# Altium footprint library DRA.PcbLib: 72 footprints (part 5 of 6)
Each footprint in its own frame and in the unit in brackets; x right, y up, seen from the top. Pads: shape width x height; smd on the part's side, far side on the other; paste and mask are expansions set on the pad; w line width, h text height; cw(c..) or ccw(c..) is an arc to the next point about the centre after c.
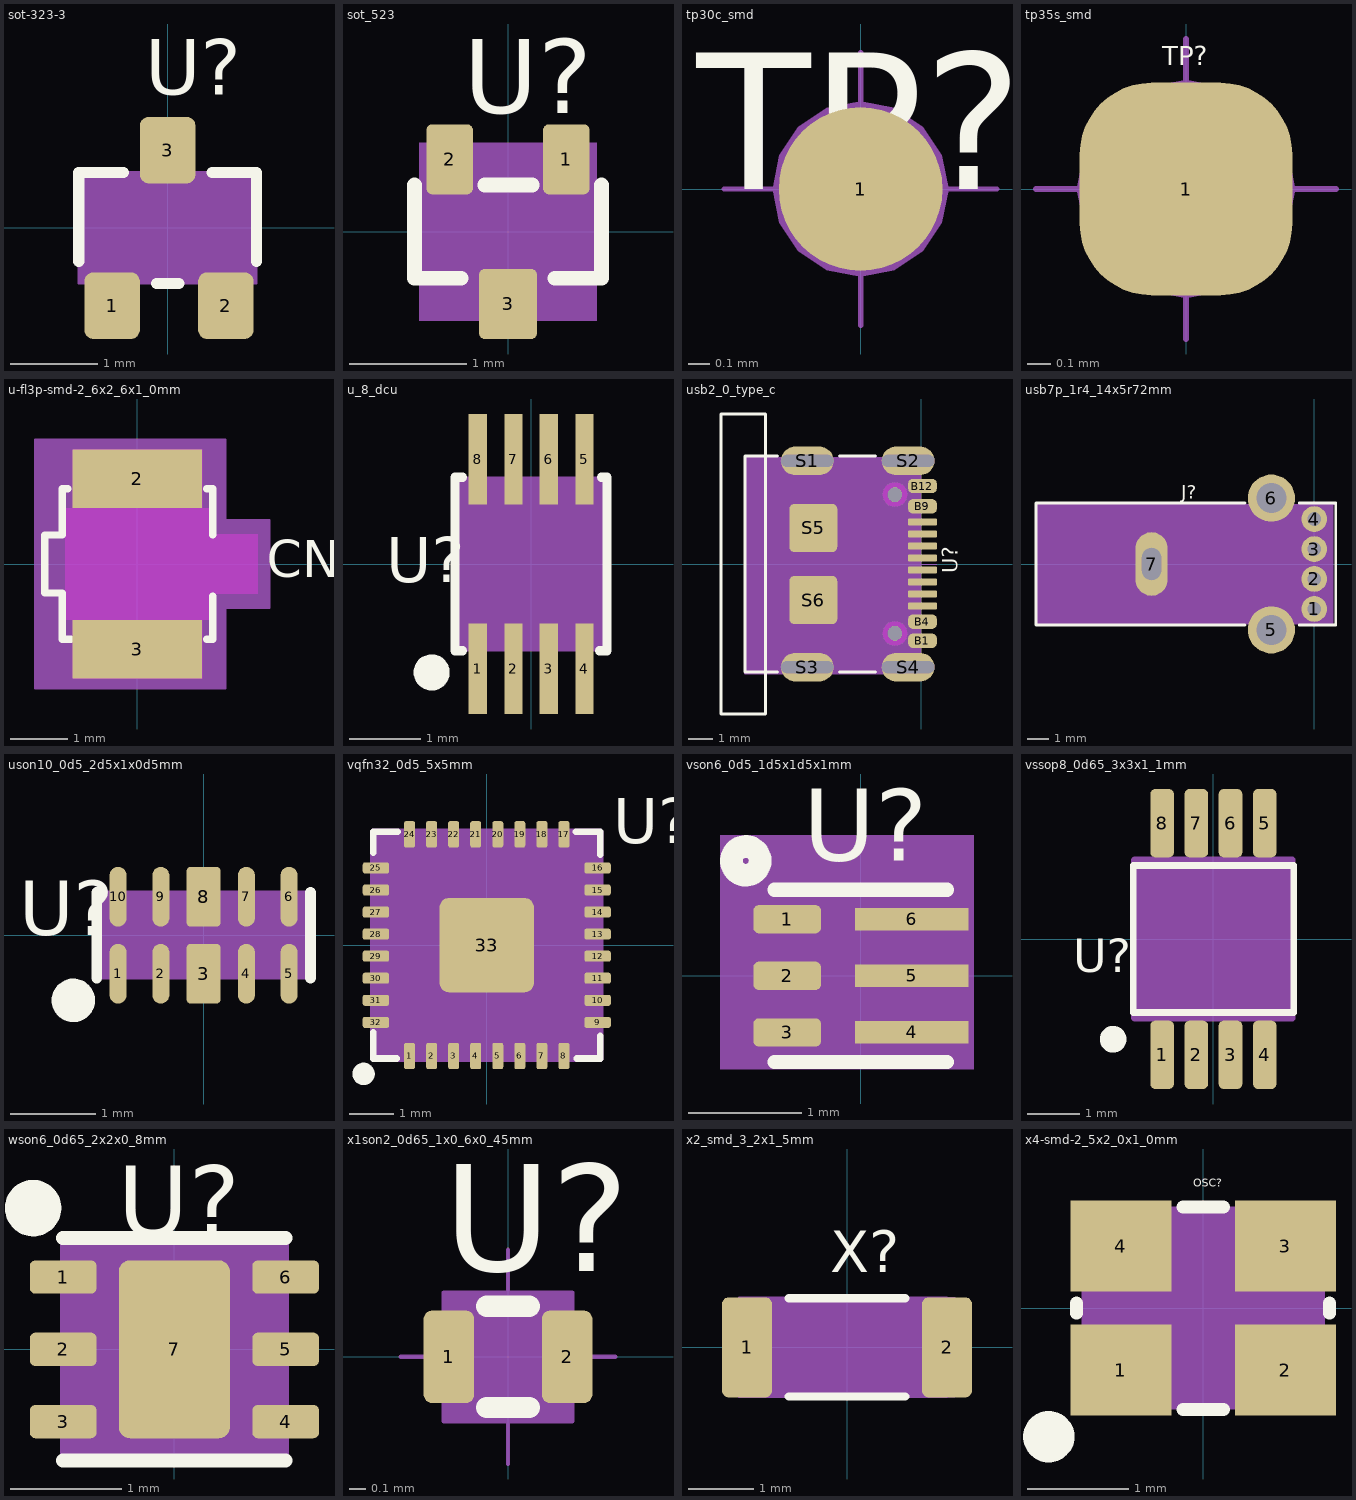
[diagram p4: the footprints below, top view; thin cyan lines are the x and y axes]

## sot-323-3 [mil]
pads (3):
  rrect32% 25x30 smd: 1(-25,-35) 2(26.18,-35) 3(0,35)
Top Overlay:
  lines w5: -40,-15 -40,25 -20,25 ; -5,-25 5,-25 ; 20,25 40,25 40,-15
  text "U?" at -10,60 h25
PLACE_BOUND_TOP:
  region: -40,-25 40,-25 40,25 -40,25
DRAWING_ORIGIN:
  lines w1: -25,0 25,0 ; 0,-25 0,25
PIN_NUMBER:
  text "3" at -10,35 h25
  text "2" at 16.18,-35 h25
  text "1" at -35,-35 h25
ASSEMBLY_TOP:
  lines w1: -40,-25 -40,25 40,25 40,-25 -40,-25
  text "U?" at -10,0 h25
  text "U?" at -5,-15 h25
3D body: height 150, standoff 0, extent -40,-25 40,25

## sot_523 [mm]
pads (3):
  rrect25% 0.4x0.6 smd: 1(0.5,0.62) 2(-0.5,0.62)
  rrect20% 0.5x0.6 smd: 3(0,-0.62)
Top Overlay:
  lines w0.127: -0.8,0.4 -0.8,-0.4 -0.4,-0.4 ; -0.2,0.4 0.208,0.4 ; 0.4,-0.4 0.8,-0.4 0.8,0.4
  text "U?" at -0.381,1.016 h0.64
PLACE_BOUND_TOP:
  region: -0.762,-0.762 0.762,-0.762 0.762,0.762 -0.762,0.762
DRAWING_ORIGIN:
  lines w0.025: -0.635,0 0.635,0 ; 0,-0.635 0,0.635
PIN_NUMBER:
  text "3" at -0.254,-0.62 h0.64
  text "2" at -0.754,0.62 h0.64
  text "1" at 0.246,0.62 h0.64
ASSEMBLY_TOP:
  lines w0.025: -0.762,-0.381 -0.762,0.381 0.762,0.381 0.762,-0.381 -0.762,-0.381
  text "U?" at -0.381,-0.254 h0.64
  text "U?" at 0.127,-0.127 h0.64
3D body: height 3.81, standoff 0, extent -0.762,-0.762 0.762,0.762

## tp30c_smd [mil]
pads (1):
  round 30 smd: 1(0,0)
Top Overlay:
  text "TP?" at -30,0 h25
PLACE_BOUND_TOP:
  region: 16.12,0 14.89,6.17 11.4,11.4 6.17,14.89 0,16.12 -6.17,14.89 -7.92,13.72 -11.4,11.4 -14.89,6.17 -16.12,0 -14.89,-6.17 -11.4,-11.4 -7.92,-13.72 -6.17,-14.89 0,-16.12 6.17,-14.89 11.4,-11.4 14.89,-6.17
DRAWING_ORIGIN:
  lines w1: -25,0 25,0 ; 0,-25 0,25
PIN_NUMBER:
  text "1" at -8,0 h20
ASSEMBLY_TOP:
  text "TP?" at 0,0 h25
  text "TP?" at -15,-40 h25
3D body: height 150, standoff 0, extent -16.12,-16.12 16.12,16.12

## tp35s_smd [mil]
pads (1):
  rrect67% 35.42x35.42 smd: 1(0,0)
Top Overlay:
  text "TP?" at -3.94,20.6 h3.15
PLACE_BOUND_TOP:
  region: 18.14,0 16.76,6.94 12.83,12.83 6.94,16.76 0,18.14 -6.94,16.76 -8.91,15.44 -12.83,12.83 -16.76,6.94 -18.14,0 -16.76,-6.94 -12.83,-12.83 -8.91,-15.44 -6.94,-16.76 0,-18.14 6.94,-16.76 12.83,-12.83 16.76,-6.94
DRAWING_ORIGIN:
  lines w1: -25,0 25,0 ; 0,-25 0,25
PIN_NUMBER:
  text "1" at -2.52,0 h3.15
ASSEMBLY_TOP:
  dashed: 18.22,0 16.83,6.97 12.88,12.88 6.97,16.83 0,18.22 -6.97,16.83 -8.95,15.51 -12.88,12.88 -16.83,6.97 -18.22,0 -16.83,-6.97 -12.88,-12.88 -8.95,-15.51 -6.97,-16.83 0,-18.22 6.97,-16.83 12.88,-12.88 16.83,-6.97
  text "TP?" at -3.54,-1.44 h3.15
3D body: height 150, standoff 0, extent -18.14,-18.14 18.14,18.14

## u-fl3p-smd-2_6x2_6x1_0mm [mil]
pads (3):
  rect 0x0 smd: 1(62.01,0)
  rect 88x40 smd: 2(0,58.07) 3(0,-58.07)
TOP keep-out:
  region: -44.09,77.95 -44.09,38.19 44.09,38.19 44.09,77.95
  region: -44.09,-38.19 -44.09,-77.95 44.09,-77.95 44.09,-38.19
  region: 42.13,20.08 42.13,-20.08 81.89,-20.08 81.89,20.08
  region: -49,38 -49,-38 50,-38 50,38
Top Overlay:
  lines w5: -47.24,51.18 -51.18,51.18 -51.18,19.69 -62.99,19.69 -62.99,-19.69 -51.18,-19.69 -51.18,-51.18 -45.28,-51.18 ; 47.24,-51.18 51.18,-51.18 51.18,-22.05 ; 47.24,51.18 51.18,51.18 51.18,19.69
  text "CN?" at 88,-9 h25
PLACE_BOUND_TOP:
  region: -70,85 60,85 60,30 90,30 90,-30 60,-30 60,-85 -70,-85
DRAWING_ORIGIN:
  lines w1: -25,0 25,0 ; 0,-25 0,25
PIN_NUMBER:
  text "1" at 52.01,0 h25
  text "3" at -10,-58.07 h25
  text "2" at -10,58.07 h25
ASSEMBLY_TOP:
  lines w1: -70,-85 -70,85 60,85 60,30 90,30 90,-30 60,-30 60,-85 -70,-85
  text "v?" at -19,10 h25
  text "CN?" at -27,-28 h25
BODY_CENTER:
  lines w1: -59.06,0 59.06,0 ; 0,-59.06 0,59.06
3D body: height 150, standoff 0, extent -70,-85 90,85

## u_8_dcu [mil]
pads (8):
  rect 10x50 smd: 1(-29.5,-58) 2(-9.8,-58) 3(9.8,-58) 4(29.5,-58) 5(29.5,58) 6(9.8,58) 7(-9.8,58) 8(-29.5,58)
Top Overlay:
  circle w10: c-55,-60 r5
  lines w5: -38,-48 -42,-48 -42,48 -38,48 ; 38,-48 42,-48 42,48 39,48
  text "U?" at -80,-10 h25
PLACE_BOUND_TOP:
  region: -42,-48 42,-48 42,48 -42,48
DRAWING_ORIGIN:
  lines w1: -25,0 25,0 ; 0,-25 0,25
PIN_NUMBER:
  text "4" at 15.14,-58 h35.9
  text "1" at -43.86,-58 h35.9
  text "8" at -43.86,58 h35.9
  text "3" at -4.56,-58 h35.9
  text "7" at -24.16,58 h35.9
  text "2" at -24.16,-58 h35.9
  text "5" at 15.14,58 h35.9
  text "6" at -4.56,58 h35.9
ASSEMBLY_TOP:
  circle w10: c-25,-35 r5
  lines w1: -42,-48 -42,48 42,48 42,-48 -42,-48
  text "U?" at 35,-5 h25
  text "U?" at -15,-10 h25
3D body: height 150, standoff 0, extent -42,-48 42,48

## usb2_0_type_c [mm]
pads (20):
  rrect33% 1.2x0.3 smd: A5(0.05,1.25) A6(0.05,0.25) A7(0.05,-0.25) A8(0.05,-1.25) B5(0.05,-1.75) B6(0.05,-0.75) B7(0.05,0.75) B8(0.05,1.75)
  rrect67% 1.2x0.6 smd: B1(0.05,-3.2) B4(0.05,-2.4) B9(0.05,2.4) B12(0.05,3.25)
  oval 2.2x1.2 hole 0.5 slot 2.2 at 0 deg: S1(-4.75,4.3) S2(-0.55,4.3) S3(-4.75,-4.3) S4(-0.55,-4.3)
  rrect20% 2x2 smd: S5(-4.5,1.5) S6(-4.5,-1.5)
  round 0.6 hole 0.6: ""(-1.1,-2.89) ""(-1.1,2.89)
Top Overlay:
  lines w0.127: -6,-4.5 -7.35,-4.5 -7.35,4.5 -6,4.5 ; -3.4,-4.5 -1.9,-4.5 ; -3.4,4.5 -1.9,4.5 ; -8.35,-6.25 -6.5,-6.25 -6.5,6.25 -8.35,6.25 -8.35,-6.25
  text "U?" at 1.524,-0.381 h0.64
PLACE_BOUND_TOP:
  region: -7.366,-4.572 0,-4.572 0,4.445 -7.366,4.445
Multi-Layer keep-out:
  region: -0.59,-2.89 -0.629,-2.695 -0.739,-2.529 -0.905,-2.419 -1.1,-2.38 -1.295,-2.419 -1.351,-2.456 -1.461,-2.529 -1.571,-2.695 -1.61,-2.89 -1.571,-3.085 -1.461,-3.251 -1.351,-3.324 -1.295,-3.361 -1.1,-3.4 -0.905,-3.361 -0.739,-3.251 -0.629,-3.085
  region: -0.59,2.89 -0.629,3.085 -0.739,3.251 -0.905,3.361 -1.1,3.4 -1.295,3.361 -1.351,3.324 -1.461,3.251 -1.571,3.085 -1.61,2.89 -1.571,2.695 -1.461,2.529 -1.351,2.456 -1.295,2.419 -1.1,2.38 -0.905,2.419 -0.739,2.529 -0.629,2.695
DRAWING_ORIGIN:
  lines w0.025: -0.635,0 0.635,0 ; 0,-0.635 0,0.635
PIN_NUMBER:
  text "S6" at -5.516,-1.5 h0.64
  text "B4" at -0.966,-2.4 h0.64
  text "B12" at -1.474,3.25 h0.64
  text "A5" at -0.966,1.25 h0.64
  text "S5" at -5.516,1.5 h0.64
  text "B7" at -0.966,0.75 h0.64
  text "B1" at -0.966,-3.2 h0.64
  text "S3" at -5.258,-4.3 h0.64
  text "S4" at -1.058,-4.3 h0.64
  text "A6" at -0.966,0.25 h0.64
  text "A8" at -0.966,-1.25 h0.64
  text "S1" at -5.258,4.3 h0.64
  text "B6" at -0.966,-0.75 h0.64
  text "B9" at -0.966,2.4 h0.64
  text "B5" at -0.966,-1.75 h0.64
  text "S2" at -1.058,4.3 h0.64
  text "A7" at -0.966,-0.25 h0.64
  text "B8" at -0.966,1.75 h0.64
ASSEMBLY_TOP:
  lines w0.025: -7.366,-4.572 -7.366,4.445 0,4.445 0,-4.572 -7.366,-4.572
  text "U?" at -2.54,0.254 h0.64
  text "U?" at -2.54,-1.016 h0.64
3D body: height 3.81, standoff 0, extent -7.366,-4.572 0,4.445

## usb7p_1r4_14x5r72mm [mm]
pads (7):
  round 1.2 hole 0.65: 1(0,-2.1) 2(0,-0.7) 3(0,0.7) 4(0,2.1)
  round 2.2 hole 1.4: 5(-2,-3.08) 6(-2,3.08)
  oval 1.5x2.972 hole 0.9 slot 1.5 at 90 deg: 7(-7.6,0)
Top Overlay:
  lines w0.127: -3.231,-2.85 -13,-2.85 -13,2.85 -3.231,2.85 ; -0.706,-2.85 1,-2.85 1,2.85 -0.706,2.85
  text "J?" at -6.223,3.048 h0.64
PLACE_BOUND_TOP:
  region: -12.954,2.794 -12.954,-2.794 0.889,-2.794 0.889,2.794
DRAWING_ORIGIN:
  lines w0.025: -0.635,0 0.635,0 ; 0,-0.635 0,0.635
PIN_NUMBER:
  text "4" at -0.254,2.1 h0.64
  text "7" at -7.854,0 h0.64
  text "3" at -0.254,0.7 h0.64
  text "2" at -0.254,-0.7 h0.64
  text "6" at -2.254,3.08 h0.64
  text "5" at -2.254,-3.08 h0.64
  text "1" at -0.254,-2.1 h0.64
ASSEMBLY_TOP:
  lines w0.025: -12.954,-2.794 -12.954,2.794 1.016,2.794 1.016,-2.794 -12.954,-2.794
  text "J?" at -4.318,-0.508 h0.64
  text "J?" at -5.08,0.508 h0.64
3D body: height 3.81, standoff 0, extent -12.954,-2.794 0.889,2.794

## uson10_0d5_2d5x1x0d5mm [mm]
pads (10):
  oval 0.2x0.7 smd: 1(-1,-0.45) 2(-0.5,-0.45) 4(0.5,-0.45) 5(1,-0.45) 6(1,0.45) 7(0.5,0.45) 9(-0.5,0.45) 10(-1,0.45)
  rrect25% 0.4x0.7 smd: 3(0,-0.45) 8(0,0.45)
Top Overlay:
  circle w0.254: c-1.524,-0.762 r0.127
  lines w0.127: -1.25,-0.5 -1.25,0.5 ; 1.25,-0.5 1.25,0.5
  text "U?" at -2.159,0 h0.64
PLACE_BOUND_TOP:
  region: -1.27,-0.508 1.27,-0.508 1.27,0.508 -1.27,0.508
DRAWING_ORIGIN:
  lines w0.025: -0.635,0 0.635,0 ; 0,-0.635 0,0.635
PIN_NUMBER:
  text "9" at -0.754,0.45 h0.64
  text "5" at 0.746,-0.45 h0.64
  text "8" at -0.254,0.45 h0.64
  text "1" at -1.254,-0.45 h0.64
  text "6" at 0.746,0.45 h0.64
  text "10" at -1.508,0.45 h0.64
  text "2" at -0.754,-0.45 h0.64
  text "7" at 0.246,0.45 h0.64
  text "4" at 0.246,-0.45 h0.64
  text "3" at -0.254,-0.45 h0.64
ASSEMBLY_TOP:
  circle w0.254: c-1.016,-0.254 r0.127
  lines w0.025: -1.27,-0.508 -1.27,0.508 1.27,0.508 1.27,-0.508 -1.27,-0.508
  text "U?" at -0.381,0 h0.64
  text "U?" at -0.381,-0.508 h0.64
3D body: height 3.81, standoff 0, extent -1.27,-0.508 1.27,0.508

## vqfn32_0d5_5x5mm [mil]
pads (33):
  rrect40% 9.84x23.62 smd: 1(-68.95,-99) 2(-49.25,-99) 3(-29.55,-99) 4(-9.85,-99) 5(9.85,-99) 6(29.55,-99) 7(49.25,-99) 8(68.95,-99) 17(68.95,99) 18(49.25,99) 19(29.55,99) 20(9.85,99) 21(-9.85,99) 22(-29.55,99) 23(-49.25,99) 24(-68.95,99)
  rrect40% 23.62x9.84 smd: 9(99,-68.95) 10(99,-49.25) 11(99,-29.55) 12(99,-9.85) 13(99,9.85) 14(99,29.55) 15(99,49.25) 16(99,68.95) 25(-99,68.95) 26(-99,49.25) 27(-99,29.55) 28(-99,9.85) 29(-99,-9.85) 30(-99,-29.55) 31(-99,-49.25) 32(-99,-68.95)
  rrect19% 84.24x84.24 smd: 33(0,0)
Top Overlay:
  circle w10: c-110,-115 r5
  lines w6: -101.29,-78 -101.29,-101.29 -80.5,-101.29 ; -101.29,82.5 -101.29,101.29 -79.5,101.29 ; 79.5,101.29 101.29,101.29 101.29,81 ; 80.5,-101.29 101.29,-101.29 101.29,-81
  text "U?" at 113,91 h40
PLACE_BOUND_TOP:
  region: -100,100 -100,-100 100,-100 100,100
DRAWING_ORIGIN:
  lines w1: -25,0 25,0 ; 0,-25 0,25
PIN_NUMBER:
  text "14" at 91,29.55 h10
  text "3" at -33.55,-99 h10
  text "29" at -107,-9.85 h10
  text "24" at -76.95,99 h10
  text "22" at -37.55,99 h10
  text "16" at 91,68.95 h10
  text "31" at -107,-49.25 h10
  text "1" at -72.95,-99 h10
  text "27" at -107,29.55 h10
  text "6" at 25.55,-99 h10
  text "13" at 91,9.85 h10
  text "7" at 45.25,-99 h10
  text "4" at -13.85,-99 h10
  text "21" at -17.85,99 h10
  text "32" at -107,-68.95 h10
  text "19" at 21.55,99 h10
  text "33" at -16,0 h10
  text "26" at -107,49.25 h10
  text "20" at 1.85,99 h10
  text "8" at 64.95,-99 h10
  text "28" at -107,9.85 h10
  text "11" at 91,-29.55 h10
  text "18" at 41.25,99 h10
  text "10" at 91,-49.25 h10
  text "25" at -107,68.95 h10
  text "2" at -53.25,-99 h10
  text "12" at 91,-9.85 h10
  text "23" at -57.25,99 h10
  text "30" at -107,-29.55 h10
  text "17" at 60.95,99 h10
  text "15" at 91,49.25 h10
  text "9" at 95,-68.95 h10
  text "5" at 5.85,-99 h10
ASSEMBLY_TOP:
  circle w10: c-85,-85 r5
  lines w6: -101.29,-101.29 -101.29,101.29 101.29,101.29 101.29,-101.29 -101.29,-101.29
  text "U?" at -45,-55 h25
  text "U?" at -46,16.5 h40
3D body: height 150, standoff 0, extent -100,-100 100,100

## vson6_0d5_1d5x1d5x1mm [mm]
pads (6):
  rrect40% 0.6x0.25 smd: 1(-0.65,0.5) 2(-0.65,0) 3(-0.65,-0.5)
  rect 1x0.2 smd: 4(0.45,-0.5) 5(0.45,0) 6(0.45,0.5)
Top Overlay:
  circle w0.2: c-1.016,1.016 r0.127
  lines w0.127: -0.762,-0.762 0.762,-0.762 ; -0.762,0.762 0.762,0.762
  text "U?" at -0.508,1.016 h0.64
PLACE_BOUND_TOP:
  region: -1.243,-0.826 1,-0.826 1,1.243 -1.243,1.243
DRAWING_ORIGIN:
  lines w0.025: -0.635,0 0.635,0 ; 0,-0.635 0,0.635
PIN_NUMBER:
  text "3" at -0.904,-0.5 h0.64
  text "5" at 0.196,0 h0.64
  text "1" at -0.904,0.5 h0.64
  text "6" at 0.196,0.5 h0.64
  text "2" at -0.904,0 h0.64
  text "4" at 0.196,-0.5 h0.64
ASSEMBLY_TOP:
  circle w0.2: c-0.381,0.381 r0.127
  lines w0.127: -0.75,-0.75 0.75,-0.75 0.75,0.75 -0.75,0.75 -0.75,-0.75
  text "U?" at -0.254,-0.254 h0.64
  text "U?" at -0.635,-0.254 h0.64
3D body: height 3.81, standoff 0, extent -1.243,-0.826 1,1.243

## vssop8_0d65_3x3x1_1mm [mil]
pads (8):
  rrect44% 17.72x51.18 smd: 1(-38.39,-86.61) 2(-12.8,-86.61) 3(12.8,-86.61) 4(38.39,-86.61) 5(38.39,86.61) 6(12.8,86.61) 7(-12.8,86.61) 8(-38.39,86.61)
Top Overlay:
  circle w10: c-75,-75 r5
  lines w5: -60,-55 -60,55 60,55 60,-55 -60,-55
  text "U?" at -105,-25 h25
PLACE_BOUND_TOP:
  region: -60,-60 60,-60 60,60 -60,60
DRAWING_ORIGIN:
  lines w1: -25,0 25,0 ; 0,-25 0,25
PIN_NUMBER:
  text "8" at -48.39,86.61 h25
  text "5" at 28.39,86.61 h25
  text "1" at -48.39,-86.61 h25
  text "7" at -22.8,86.61 h25
  text "2" at -22.8,-86.61 h25
  text "6" at 2.8,86.61 h25
  text "4" at 28.39,-86.61 h25
  text "3" at 2.8,-86.61 h25
ASSEMBLY_TOP:
  circle w10: c-40,-40 r5
  lines w5: -59.06,-59.06 -59.06,59.06 59.06,59.06 59.06,-59.06 -59.06,-59.06
  text "U?" at -20,-5 h25
  text "U?" at -10,-35 h25
3D body: height 150, standoff 0, extent -60,-60 60,60

## wson6_0d65_2x2x0_8mm [mm]
pads (7):
  rrect33% 0.6x0.3 smd: 1(-1,0.65) 2(-1,0) 3(-1,-0.65) 4(1,-0.65) 5(1,0) 6(1,0.65)
  rrect20% 1x1.6 smd: 7(0,0)
Top Overlay:
  circle w0.254: c-1.27,1.27 r0.127
  lines w0.127: -1,-1 1,-1 ; -1,1 1,1
  text "U?" at -0.508,1.016 h0.64
PLACE_BOUND_TOP:
  region: -1.016,-1.016 1.016,-1.016 1.016,1.016 -1.016,1.016
DRAWING_ORIGIN:
  lines w0.025: -0.635,0 0.635,0 ; 0,-0.635 0,0.635
PIN_NUMBER:
  text "3" at -1.254,-0.65 h0.64
  text "5" at 0.746,0 h0.64
  text "1" at -1.254,0.65 h0.64
  text "6" at 0.746,0.65 h0.64
  text "2" at -1.254,0 h0.64
  text "7" at -0.254,0 h0.64
  text "4" at 0.746,-0.65 h0.64
ASSEMBLY_TOP:
  circle w0.254: c-0.762,0.762 r0.127
  lines w0.025: -1.016,-1.016 -1.016,1.016 1.016,1.016 1.016,-1.016 -1.016,-1.016
  text "U?" at -0.254,0.127 h0.64
  text "U?" at -0.381,0 h0.64
3D body: height 3.81, standoff 0, extent -1.016,-1.016 1.016,1.016

## x1son2_0d65_1x0_6x0_45mm [mm]
pads (2):
  rrect33% 0.3x0.55 smd: 1(-0.35,0) 2(0.35,0)
Top Overlay:
  lines w0.127: -0.127,-0.3 0.127,-0.3 ; -0.127,0.3 0.127,0.3
  text "U?" at -0.381,0.508 h0.64
PLACE_BOUND_TOP:
  region: -0.381,-0.381 0.381,-0.381 0.381,0.381 -0.381,0.381
DRAWING_ORIGIN:
  lines w0.025: -0.635,0 0.635,0 ; 0,-0.635 0,0.635
PIN_NUMBER:
  text "2" at 0.096,0 h0.64
  text "1" at -0.604,0 h0.64
ASSEMBLY_TOP:
  lines w0.025: -0.381,-0.381 -0.381,0.381 0.381,0.381 0.381,-0.381 -0.381,-0.381
  text "U?" at -0.254,-0.381 h0.64
  text "U?" at -0.381,-0.381 h0.64
3D body: height 3.81, standoff 0, extent -0.381,-0.381 0.381,0.381

## x2_smd_3_2x1_5mm [mil]
pads (2):
  rrect26% 30x60 smd: 1(-60,0) 2(60,0)
Top Overlay:
  lines w5: -35,-29.53 35,-29.53 ; -35,29.53 35,29.53
  text "X?" at -10,45 h25
PLACE_BOUND_TOP:
  region: -65,-30 65,-30 65,30 -65,30
DRAWING_ORIGIN:
  lines w1: -25,0 25,0 ; 0,-25 0,25
PIN_NUMBER:
  text "2" at 50,0 h25
  text "1" at -70,0 h25
ASSEMBLY_TOP:
  lines w1: -65,-30 -65,30 60,30 60,-30 -65,-30
  text "X?" at -10,-20 h25
  text "X?" at -15,5 h25
3D body: height 150, standoff 0, extent -65,-30 65,30

## x4-smd-2_5x2_0x1_0mm [mm]
pads (4):
  rect 1x0.9 smd: 1(-0.813,-0.612) 2(0.813,-0.612) 3(0.813,0.612) 4(-0.813,0.612)
Top Overlay:
  circle w0.254: c-1.524,-1.27 r0.127
  lines w0.127: -1.25,-0.05 -1.25,0.05 ; -0.2,-1 0.2,-1 ; -0.2,1 0.2,1 ; 1.25,-0.05 1.25,0.05
  text "OSC?" at -0.1,1.201 h0.08
PLACE_BOUND_TOP:
  region: -1.201,1.001 -1.201,-1.001 1.201,-1.001 1.201,1.001
DRAWING_ORIGIN:
  lines w0.025: -0.635,0 0.635,0 ; 0,-0.635 0,0.635
PIN_NUMBER:
  text "1" at -0.877,-0.612 h0.08
  text "4" at -0.877,0.612 h0.08
  text "3" at 0.749,0.612 h0.08
  text "2" at 0.749,-0.612 h0.08
ASSEMBLY_TOP:
  circle w0.254: c-0.889,-0.635 r0.127
  circle w0.025: c-1.001,-0.601 r0.1
  dashed: -1.201,1.001 -1.201,-1.001 1.201,-1.001 1.201,1.001
  text "OSC?" at -0.1,0.4 h0.08
  text "OSC?" at -0.1,0 h0.08
3D body: height 3.81, standoff 0, extent -1.201,-1.001 1.201,1.001